# Altium schematic symbol library Buttons.SchLib: 1 symbol
Pins are listed as number, name and electrical type; pins without a type are passive.

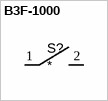
[diagram p0: symbol B3F-1000]

## B3F-1000
designator S?
ChipDip PN: 8001787102; Platan PN: 2011347247
footprint SW_B3F-1000; pin to pad 1>1+2 2>4+3
pins: 1 0, 2 1